# Altium schematic symbol library 屏幕一体板v1.SCHLIB: 32 symbols
Pins are listed as number, name and electrical type; pins without a type are passive.

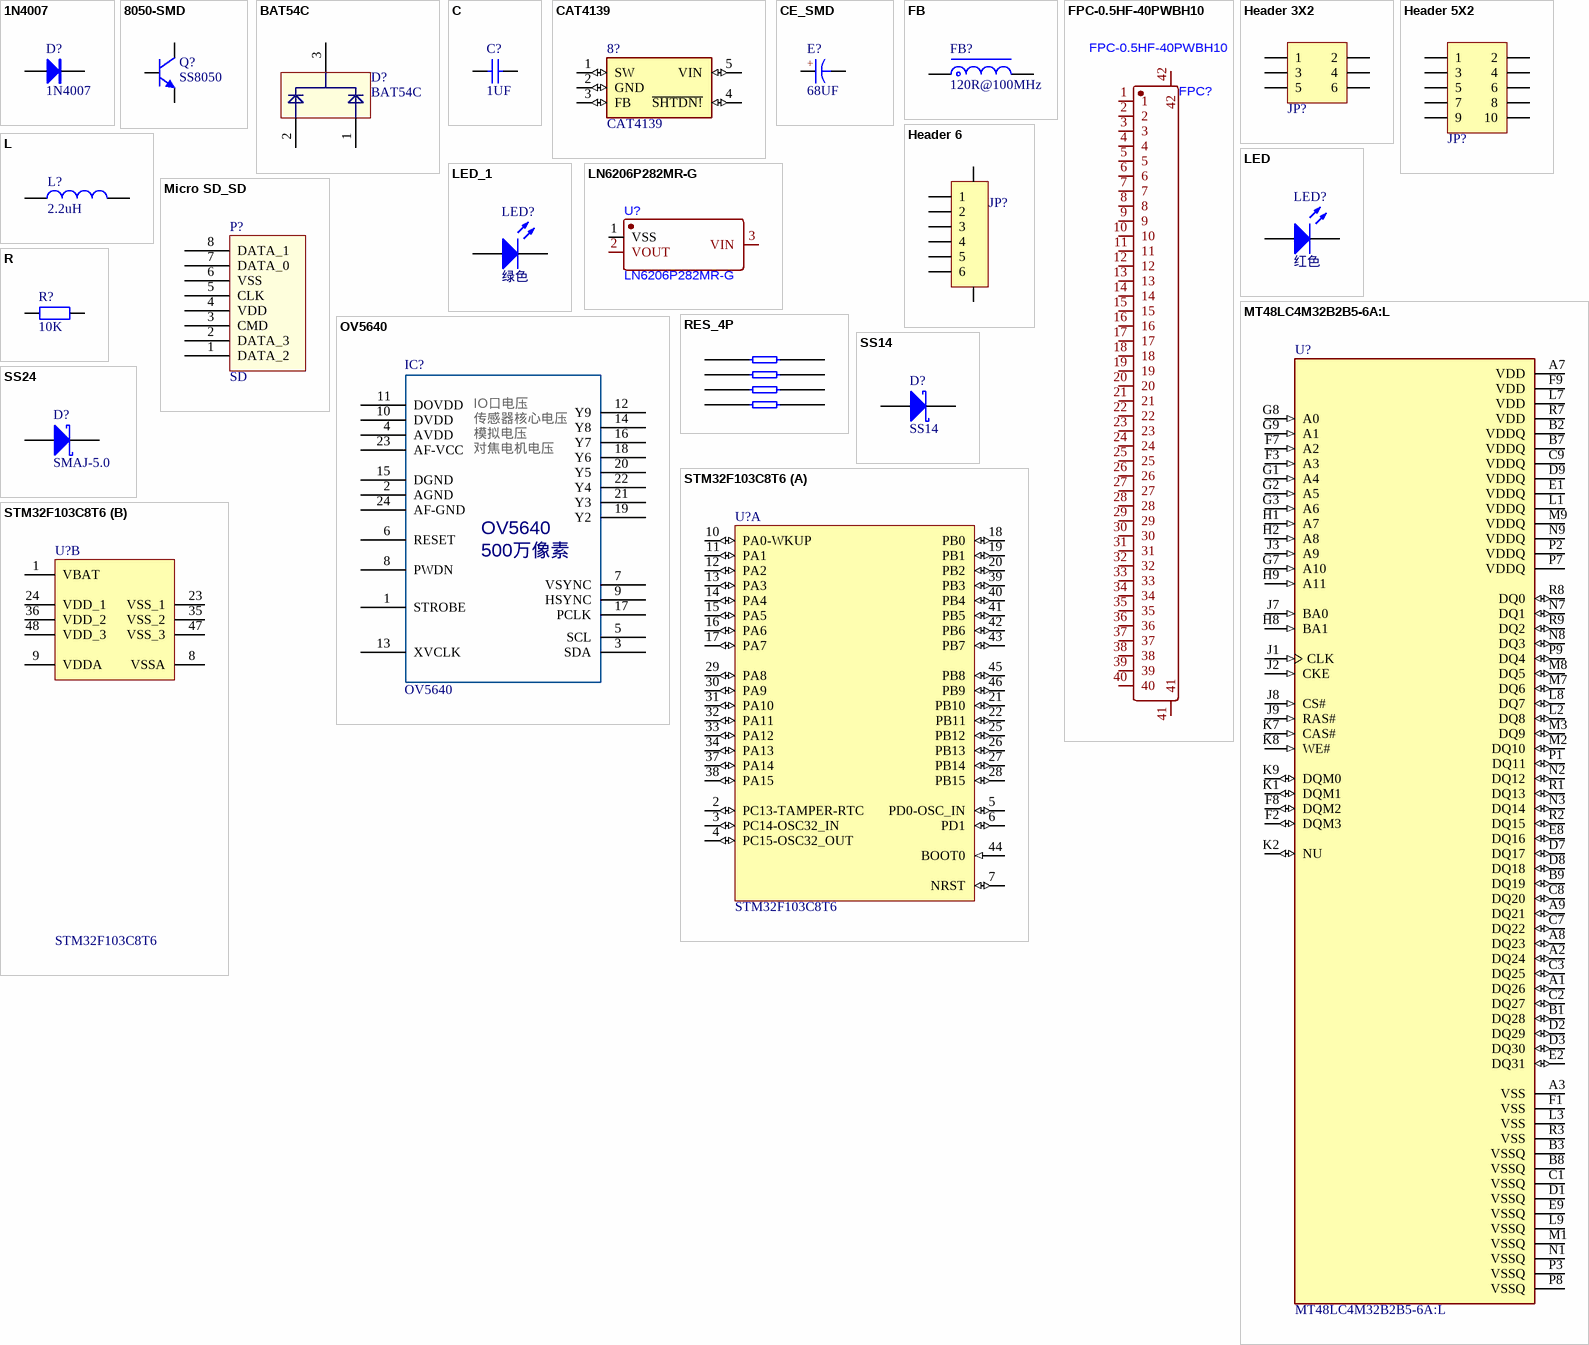
[diagram p0: symbols 1N4007 to STM32F103C8T6]

## 1N4007
designator D?
整流二极管
footprint SMA (4.5x2.6*2.2mm（长宽高，不包括引脚）)
pins: 1 A, 2 K

## 8050-SMD
designator Q?, comment SS8050
高频放大-NPN型
footprint SOT23-3N (SOT23, 3-Leads, Body 2.9x1.3mm, Pitch 0.95mm, Lead Span 2.4mm, IPC Medium Density)
pins: 1 B, 2 E, 3 C

## BAT54C
designator D?
两路肖特基二极管
footprint SOT23-3N (SOT23, 3-Leads, Body 2.9x1.3mm, Pitch 0.95mm, Lead Span 2.4mm, IPC Medium Density)
pins: 1, 2, 3

## C
designator C?, comment 1UF
贴片电容/MLCC电容
footprint C0603_L (贴片MLCC电容)
footprint C0201_M
pins: 1, 2

## CAT4139
designator 8?
LED Driver IC 1 Output DC DC Regulator Step-Up (Boost) Analog, PWM Dimming 750mA (Switch) TSOT-23-5
footprint SOT-23(OT)5_LEAD
pins: 1 SW (io), 2 GND (io), 3 FB (io), 4 ~{SHTDN!} (io), 5 VIN (io)

## CE_SMD
designator E?, comment 68UF
贴片电解电容
footprint CE A(3*5.4) (贴片电解电容，直径3mm，高5.4mm)
pins: 1, 2
text: +

## FB
designator FB?, comment 120R@100MHz
贴片磁珠
footprint FB0201 (0201贴片磁珠)
footprint FB0805 (0805贴片磁珠)
pins: 1, 2

## FPC-0.5HF-40PWBH10
designator FPC?
footprint FPC-SMD_40P-P0.50_FPC-0.5HF-40PWBH10
pins: 1, 2, 3, 4, 5, 6, 7, 8, 9, 10, 11, 12, 13, 14, 15, 16, 17, 18, 19, 20, 21, 22, 23, 24, 25, 26, 27, 28, 29, 30, 31, 32, 33, 34, 35, 36, 37, 38, 39, 40, 41, 42

## Header 3X2
designator JP?, comment Header3X2  (value not drawn)
3*2P接插件
footprint HDR2.54-M-LS-2x3P (脚距：2.54mm，贴片双排母)
pins: 1, 2, 3, 4, 5, 6

## Header 5X2
designator JP?  (value not drawn)
5*2P接插件
footprint HDR2.54-M-LS-2x5P (脚距：2.54mm，贴片双排母)
pins: 1, 2, 3, 4, 5, 6, 7, 8, 9, 10

## Header 6
designator JP?, comment CON-6P  (value not drawn)
6P连接器
footprint FPC0.5-WT-6P (长：7.2mm，宽：5.2mm，高：2mm)
pins: 0, 0, 1, 2, 3, 4, 5, 6

## L
designator L?, comment 2.2uH
贴片小功率电感
footprint L0805 (0805贴片叠层电感)
pins: 1, 2

## LED
designator LED?, comment 红色
贴片LED
footprint LED0603_R (红色0603LED)
footprint LED0805_G (绿色0805LED)
pins: 1 A, 2 K

## LED_1
designator LED?, comment 绿色
贴片LED
footprint LED0603_R (红色0603LED)
footprint LED0805_G (绿色0805LED)
pins: 1 A, 2 K

## LN6206P282MR-G
designator U?
footprint SOT-23-3_L2.9-W1.3-P1.90-LS2.4-BR
pins: 1 VSS, 2 VOUT, 3 VIN

## Micro SD_SD
designator P?, comment SD
自弹式TF卡座
footprint MICRO SD
pins: 1 DATA_2, 2 DATA_3, 3 CMD, 4 VDD, 5 CLK, 6 VSS, 7 DATA_0, 8 DATA_1

## MT48LC4M32B2B5-6A:L
designator U?
SDRAM Memory IC 128Mb _4M x 32_ Parallel 167MHz 5.4ns 90-VFBGA _8x13_
footprint BGA90C80P9X15_800X1300X100N
pins: A1 DQ26 (io), A2 DQ24 (io), A3 VSS (power), A7 VDD (power), A8 DQ23 (io), A9 DQ21 (io), B1 DQ28 (io), B2 VDDQ (power), B3 VSSQ (power), B7 VDDQ (power), B8 VSSQ (power), B9 DQ19 (io), C1 VSSQ (power), C2 DQ27 (io), C3 DQ25 (io), C7 DQ22 (io), C8 DQ20 (io), C9 VDDQ (power), D1 VSSQ (power), D2 DQ29 (io), D3 DQ30 (io), D7 DQ17 (io), D8 DQ18 (io), D9 VDDQ (power), E1 VDDQ (power), E2 DQ31 (io), E8 DQ16 (io), E9 VSSQ (power), F1 VSS (power), F2 DQM3 (io), F3 A3 (in), F7 A2 (in), F8 DQM2 (io), F9 VDD (power), G1 A4 (in), G2 A5 (in), G3 A6 (in), G7 A10 (in), G8 A0 (in), G9 A1 (in), H1 A7 (in), H2 A8 (in), H8 BA1 (in), H9 A11 (in), J1 CLK (in), J2 CKE (in), J3 A9 (in), J7 BA0 (in), J8 CS# (in), J9 RAS# (in), K1 DQM1 (io), K2 NU (io), K7 CAS# (in), K8 WE# (in), K9 DQM0 (io), L1 VDDQ (power), L2 DQ8 (io), L3 VSS (power), L7 VDD (power), L8 DQ7 (io), L9 VSSQ (power), M1 VSSQ (power), M2 DQ10 (io), M3 DQ9 (io), M7 DQ6 (io), M8 DQ5 (io), M9 VDDQ (power), N1 VSSQ (power), N2 DQ12 (io), N3 DQ14 (io), N7 DQ1 (io), N8 DQ3 (io), N9 VDDQ (power), P1 DQ11 (io), P2 VDDQ (power), P3 VSSQ (power), P7 VDDQ (power), P8 VSSQ (power), P9 DQ4 (io), R1 DQ13 (io), R2 DQ15 (io), R3 VSS (power), R7 VDD (power), R8 DQ0 (io), R9 DQ2 (io)

## OV5640
designator IC?
footprint OV2640
pins: 1 STROBE, 2 AGND, 3 SDA, 4 AVDD, 5 SCL, 6 RESET, 7 VSYNC, 8 PWDN, 9 HSYNC, 10 DVDD, 11 DOVDD, 12 Y9, 13 XVCLK, 14 Y8, 15 DGND, 16 Y7, 17 PCLK, 18 Y6, 19 Y2, 20 Y5, 21 Y3, 22 Y4, 23 AF-VCC, 24 AF-GND
text: IO口电压; 传感器核心电压; 模拟电压; 对焦电机电压; 500万像素

## R
designator R?, comment 10K
贴片电阻
footprint R0603_L (1/10W贴片电阻)
footprint R0805_L (1/8W贴片电阻)
pins: 1, 2

## RES_4P
designator RP?, comment 120R排阻  (value not drawn)
footprint 0603_4P
pins: 1, 2, 3, 4, 5, 6, 7, 8

## SS14
designator D?
肖特基二极管
footprint SMA (4.5x2.6*2.2mm（长宽高，不包括引脚）)
pins: 1 A, 2 K

## SS24
designator D?, comment SMAJ-5.0
肖特基二极管
footprint SMB (4.7*3.9*2.2mm(长宽高，不包括引脚）)
pins: 1 A, 2 K

## STM32F103C8T6
designator U?
STM32 ARM-based 32-bit MCU Performance Line with 64 kB Flash, 20 kB Internal RAM, -40 to +85癈 Temperature, 48-Pin LQFP, Tray
footprint LQFP48_N (Thin QFP, 48-Leads, Body 7x7mm, Pitch 0.5mm, IPC Medium Density)
part A pins: 2 PC13-TAMPER-RTC (io), 3 PC14-OSC32_IN (io), 4 PC15-OSC32_OUT (io), 5 PD0-OSC_IN (io), 6 PD1 (io), 7 NRST (io), 10 PA0-WKUP (io), 11 PA1 (io), 12 PA2 (io), 13 PA3 (io), 14 PA4 (io), 15 PA5 (io), 16 PA6 (io), 17 PA7 (io), 18 PB0 (io), 19 PB1 (io), 20 PB2 (io), 21 PB10 (io), 22 PB11 (io), 25 PB12 (io), 26 PB13 (io), 27 PB14 (io), 28 PB15 (io), 29 PA8 (io), 30 PA9 (io), 31 PA10 (io), 32 PA11 (io), 33 PA12 (io), 34 PA13 (io), 37 PA14 (io), 38 PA15 (io), 39 PB3 (io), 40 PB4 (io), 41 PB5 (io), 42 PB6 (io), 43 PB7 (io), 44 BOOT0 (in), 45 PB8 (io), 46 PB9 (io)
part B pins: 1 VBAT (power), 8 VSSA (power), 9 VDDA (power), 23 VSS_1 (power), 24 VDD_1 (power), 35 VSS_2 (power), 36 VDD_2 (power), 47 VSS_3 (power), 48 VDD_3 (power)

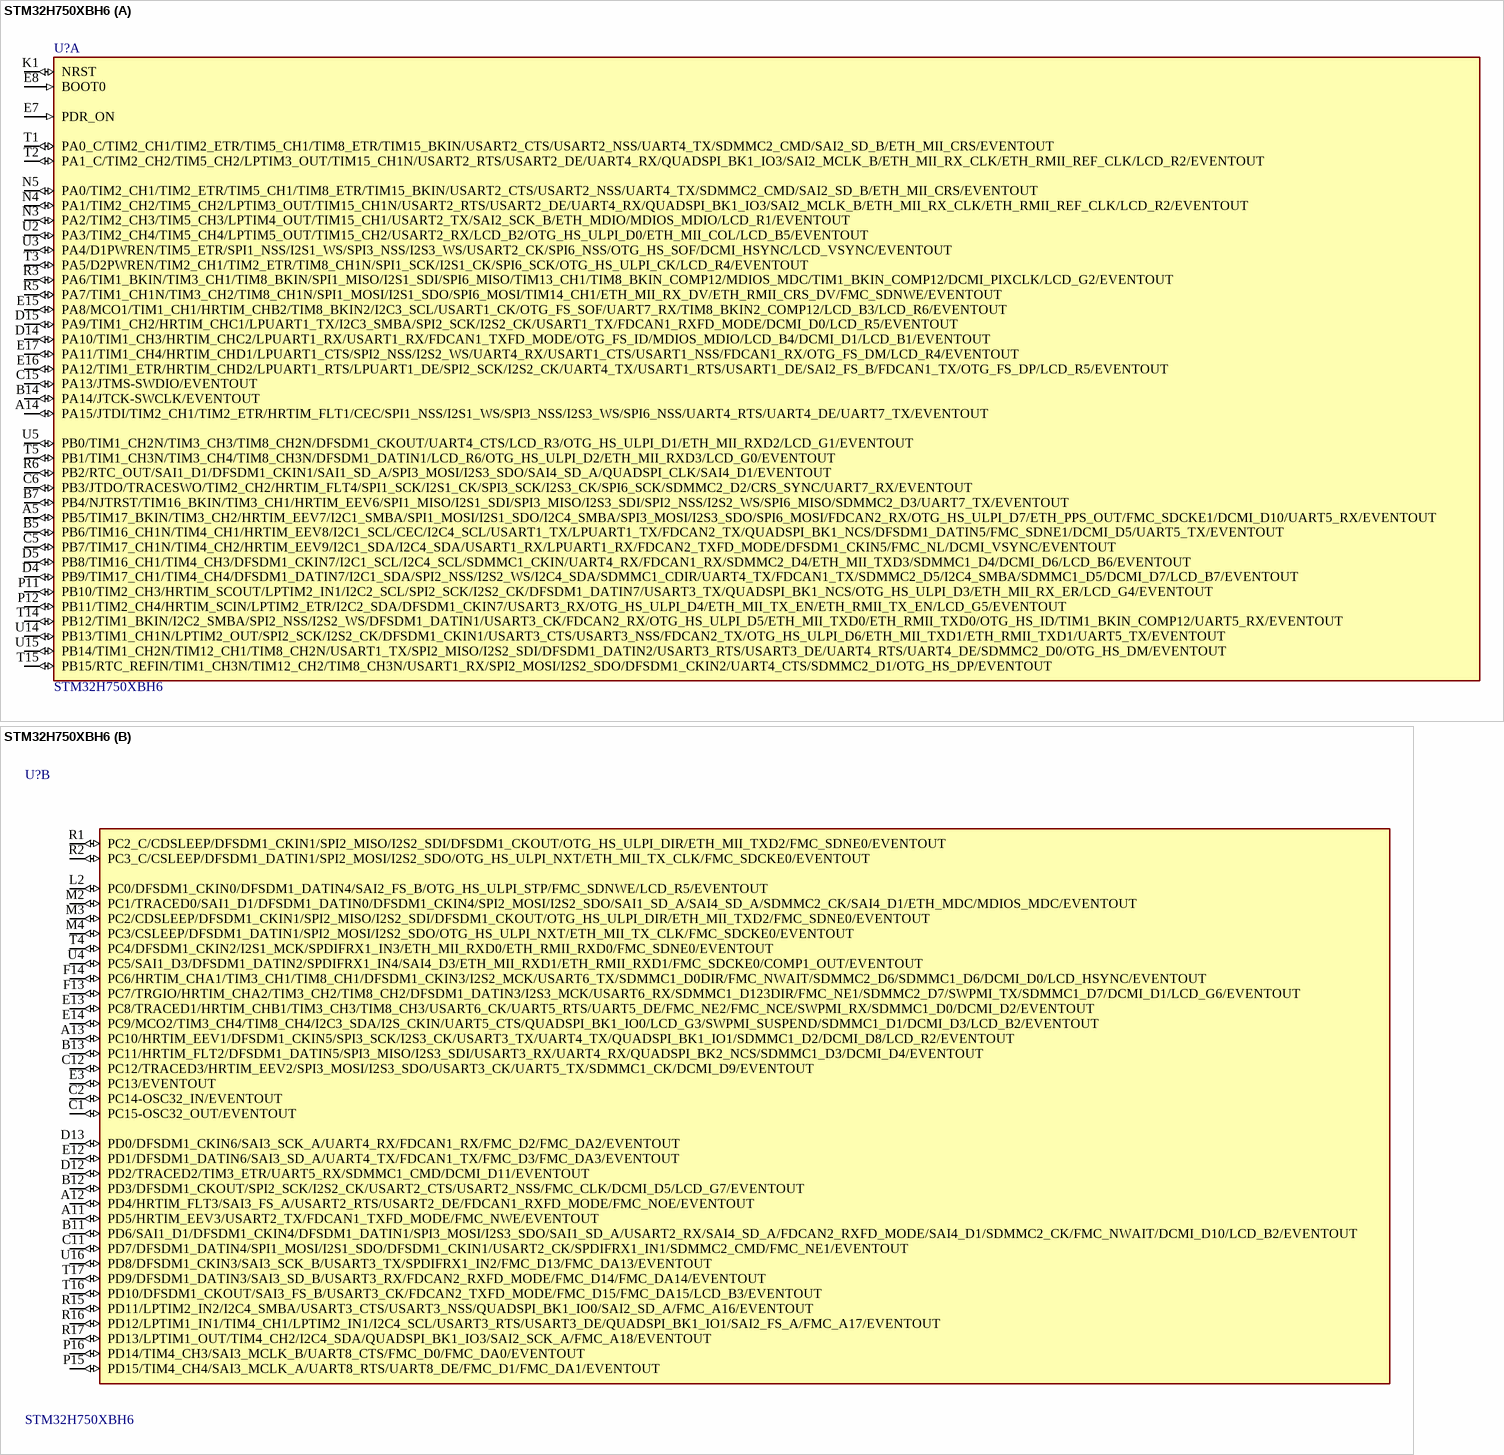
[diagram p1: symbol STM32H750XBH6]

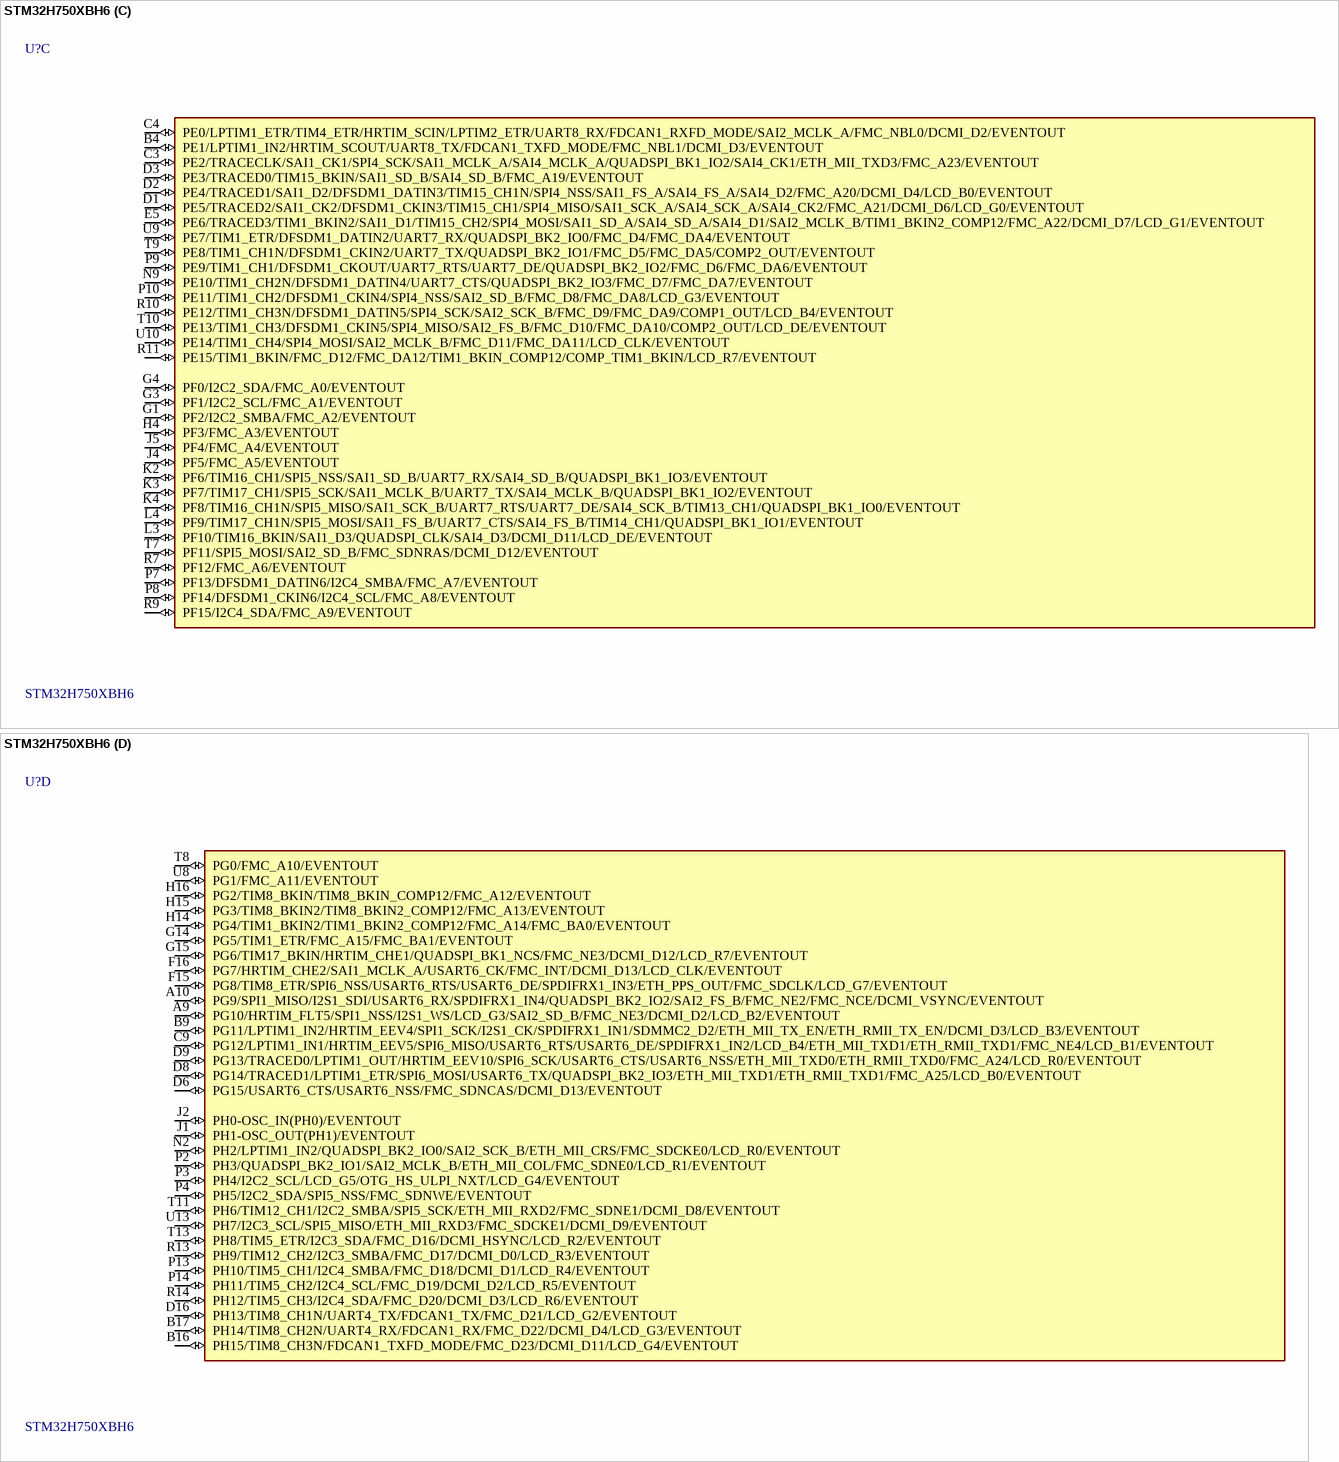
[diagram p2: symbol STM32H750XBH6]

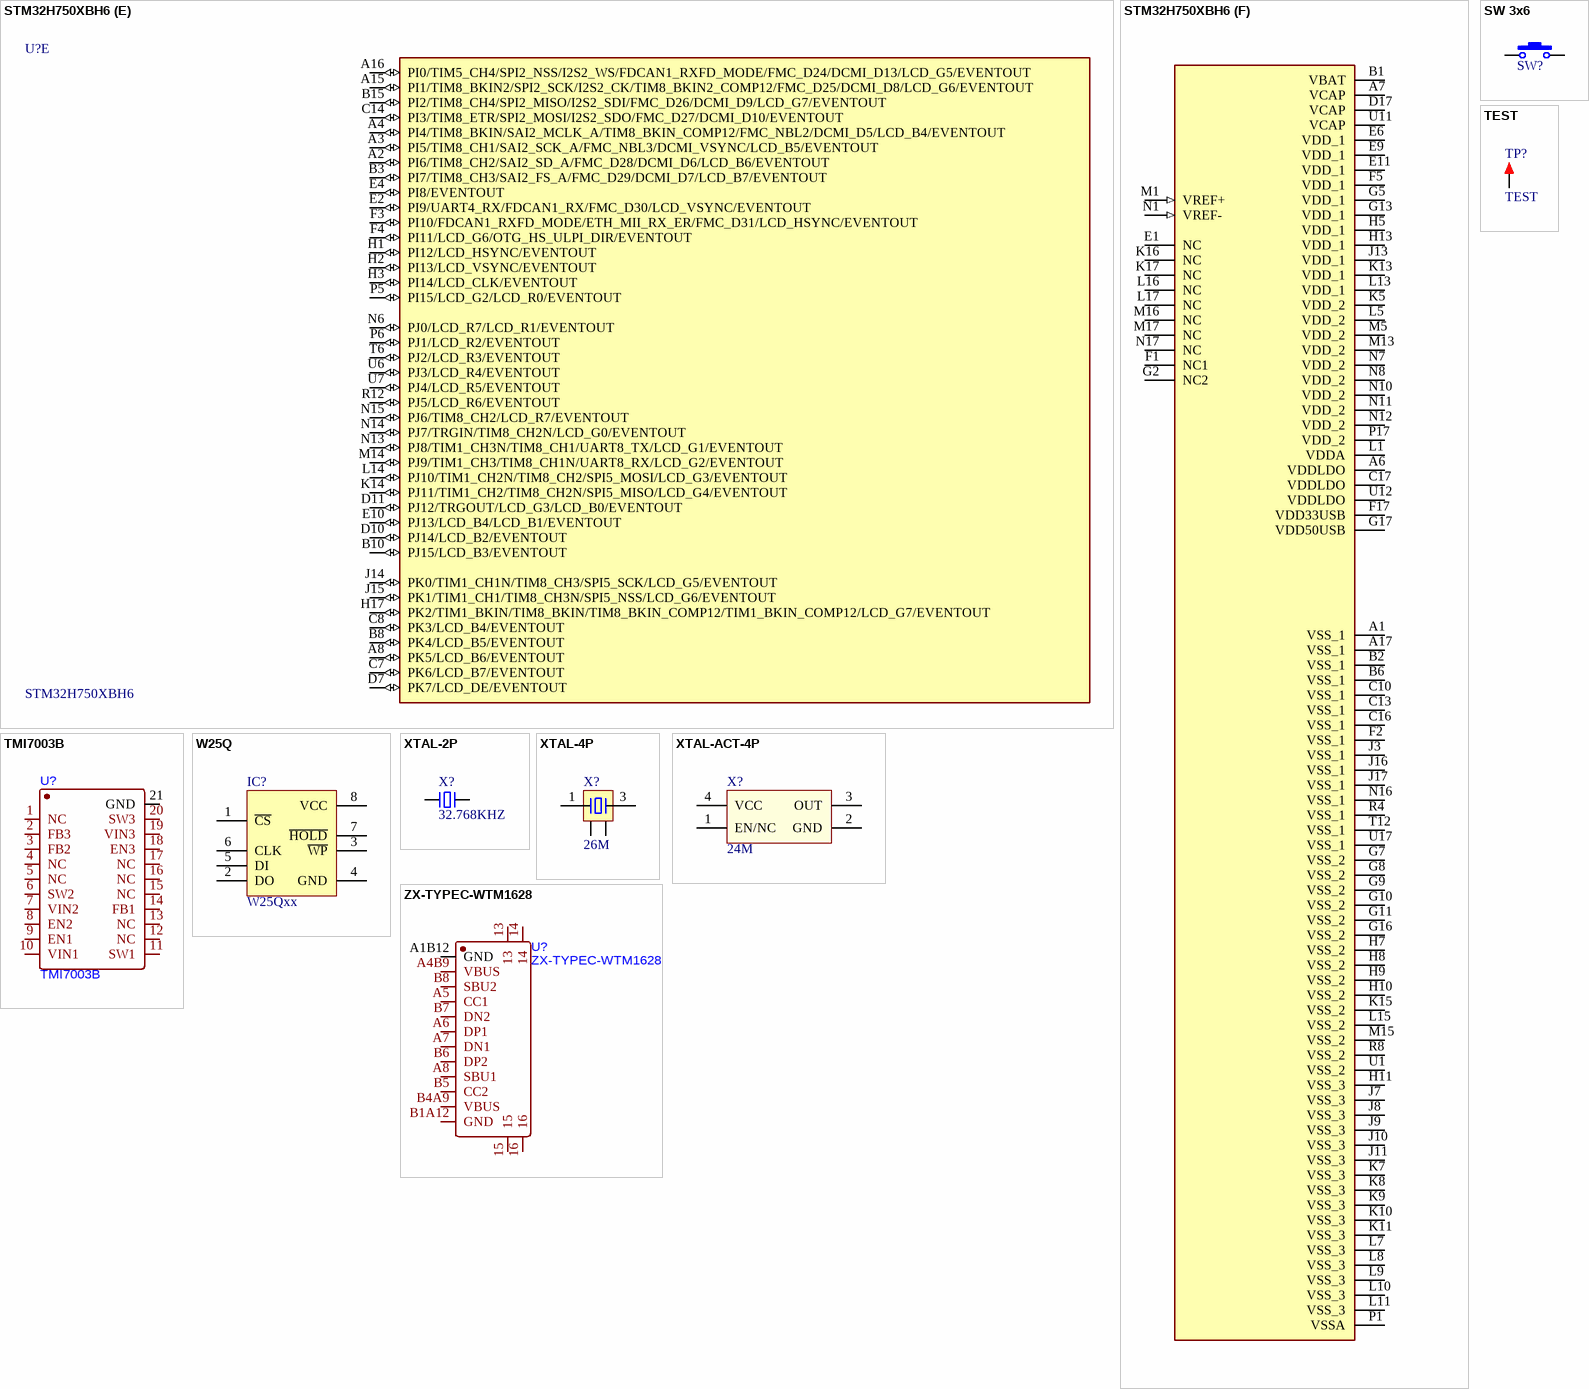
[diagram p3: symbols STM32H750XBH6 to ZX-TYPEC-WTM1628]

## STM32H750XBH6
designator U?
ARMÂ® CortexÂ®-M7 STM32H7 Microcontroller IC 32-Bit 480MHz 128KB (128K x 8) FLASH 240+25-TFBGA (14x14)
footprint IC_STM32H750XBH6
part A pins: A5 PB5/TIM17_BKIN/TIM3_CH2/HRTIM_EEV7/I2C1_SMBA/SPI1_MOSI/I2S1_SDO/I2C4_SMBA/SPI3_MOSI/I2S3_SDO/SPI6_MOSI/FDCAN2_RX/OTG_HS_ULPI_D7/ETH_PPS_OUT/FMC_SDCKE1/DCMI_D10/UART5_RX/EVENTOUT (io), A14 PA15/JTDI/TIM2_CH1/TIM2_ETR/HRTIM_FLT1/CEC/SPI1_NSS/I2S1_WS/SPI3_NSS/I2S3_WS/SPI6_NSS/UART4_RTS/UART4_DE/UART7_TX/EVENTOUT (io), B5 PB6/TIM16_CH1N/TIM4_CH1/HRTIM_EEV8/I2C1_SCL/CEC/I2C4_SCL/USART1_TX/LPUART1_TX/FDCAN2_TX/QUADSPI_BK1_NCS/DFSDM1_DATIN5/FMC_SDNE1/DCMI_D5/UART5_TX/EVENTOUT (io), B7 PB4/NJTRST/TIM16_BKIN/TIM3_CH1/HRTIM_EEV6/SPI1_MISO/I2S1_SDI/SPI3_MISO/I2S3_SDI/SPI2_NSS/I2S2_WS/SPI6_MISO/SDMMC2_D3/UART7_TX/EVENTOUT (io), B14 PA14/JTCK-SWCLK/EVENTOUT (io), C5 PB7/TIM17_CH1N/TIM4_CH2/HRTIM_EEV9/I2C1_SDA/I2C4_SDA/USART1_RX/LPUART1_RX/FDCAN2_TXFD_MODE/DFSDM1_CKIN5/FMC_NL/DCMI_VSYNC/EVENTOUT (io), C6 PB3/JTDO/TRACESWO/TIM2_CH2/HRTIM_FLT4/SPI1_SCK/I2S1_CK/SPI3_SCK/I2S3_CK/SPI6_SCK/SDMMC2_D2/CRS_SYNC/UART7_RX/EVENTOUT (io), C15 PA13/JTMS-SWDIO/EVENTOUT (io), D4 PB9/TIM17_CH1/TIM4_CH4/DFSDM1_DATIN7/I2C1_SDA/SPI2_NSS/I2S2_WS/I2C4_SDA/SDMMC1_CDIR/UART4_TX/FDCAN1_TX/SDMMC2_D5/I2C4_SMBA/SDMMC1_D5/DCMI_D7/LCD_B7/EVENTOUT (io), D5 PB8/TIM16_CH1/TIM4_CH3/DFSDM1_CKIN7/I2C1_SCL/I2C4_SCL/SDMMC1_CKIN/UART4_RX/FDCAN1_RX/SDMMC2_D4/ETH_MII_TXD3/SDMMC1_D4/DCMI_D6/LCD_B6/EVENTOUT (io), D14 PA10/TIM1_CH3/HRTIM_CHC2/LPUART1_RX/USART1_RX/FDCAN1_TXFD_MODE/OTG_FS_ID/MDIOS_MDIO/LCD_B4/DCMI_D1/LCD_B1/EVENTOUT (io), D15 PA9/TIM1_CH2/HRTIM_CHC1/LPUART1_TX/I2C3_SMBA/SPI2_SCK/I2S2_CK/USART1_TX/FDCAN1_RXFD_MODE/DCMI_D0/LCD_R5/EVENTOUT (io), E7 PDR_ON (in), E8 BOOT0 (in), E15 PA8/MCO1/TIM1_CH1/HRTIM_CHB2/TIM8_BKIN2/I2C3_SCL/USART1_CK/OTG_FS_SOF/UART7_RX/TIM8_BKIN2_COMP12/LCD_B3/LCD_R6/EVENTOUT (io), E16 PA12/TIM1_ETR/HRTIM_CHD2/LPUART1_RTS/LPUART1_DE/SPI2_SCK/I2S2_CK/UART4_TX/USART1_RTS/USART1_DE/SAI2_FS_B/FDCAN1_TX/OTG_FS_DP/LCD_R5/EVENTOUT (io), E17 PA11/TIM1_CH4/HRTIM_CHD1/LPUART1_CTS/SPI2_NSS/I2S2_WS/UART4_RX/USART1_CTS/USART1_NSS/FDCAN1_RX/OTG_FS_DM/LCD_R4/EVENTOUT (io), K1 NRST (io), N3 PA2/TIM2_CH3/TIM5_CH3/LPTIM4_OUT/TIM15_CH1/USART2_TX/SAI2_SCK_B/ETH_MDIO/MDIOS_MDIO/LCD_R1/EVENTOUT (io), N4 PA1/TIM2_CH2/TIM5_CH2/LPTIM3_OUT/TIM15_CH1N/USART2_RTS/USART2_DE/UART4_RX/QUADSPI_BK1_IO3/SAI2_MCLK_B/ETH_MII_RX_CLK/ETH_RMII_REF_CLK/LCD_R2/EVENTOUT (io), N5 PA0/TIM2_CH1/TIM2_ETR/TIM5_CH1/TIM8_ETR/TIM15_BKIN/USART2_CTS/USART2_NSS/UART4_TX/SDMMC2_CMD/SAI2_SD_B/ETH_MII_CRS/EVENTOUT (io), P11 PB10/TIM2_CH3/HRTIM_SCOUT/LPTIM2_IN1/I2C2_SCL/SPI2_SCK/I2S2_CK/DFSDM1_DATIN7/USART3_TX/QUADSPI_BK1_NCS/OTG_HS_ULPI_D3/ETH_MII_RX_ER/LCD_G4/EVENTOUT (io), P12 PB11/TIM2_CH4/HRTIM_SCIN/LPTIM2_ETR/I2C2_SDA/DFSDM1_CKIN7/USART3_RX/OTG_HS_ULPI_D4/ETH_MII_TX_EN/ETH_RMII_TX_EN/LCD_G5/EVENTOUT (io), R3 PA6/TIM1_BKIN/TIM3_CH1/TIM8_BKIN/SPI1_MISO/I2S1_SDI/SPI6_MISO/TIM13_CH1/TIM8_BKIN_COMP12/MDIOS_MDC/TIM1_BKIN_COMP12/DCMI_PIXCLK/LCD_G2/EVENTOUT (io), R5 PA7/TIM1_CH1N/TIM3_CH2/TIM8_CH1N/SPI1_MOSI/I2S1_SDO/SPI6_MOSI/TIM14_CH1/ETH_MII_RX_DV/ETH_RMII_CRS_DV/FMC_SDNWE/EVENTOUT (io), R6 PB2/RTC_OUT/SAI1_D1/DFSDM1_CKIN1/SAI1_SD_A/SPI3_MOSI/I2S3_SDO/SAI4_SD_A/QUADSPI_CLK/SAI4_D1/EVENTOUT (io), T1 PA0_C/TIM2_CH1/TIM2_ETR/TIM5_CH1/TIM8_ETR/TIM15_BKIN/USART2_CTS/USART2_NSS/UART4_TX/SDMMC2_CMD/SAI2_SD_B/ETH_MII_CRS/EVENTOUT (io), T2 PA1_C/TIM2_CH2/TIM5_CH2/LPTIM3_OUT/TIM15_CH1N/USART2_RTS/USART2_DE/UART4_RX/QUADSPI_BK1_IO3/SAI2_MCLK_B/ETH_MII_RX_CLK/ETH_RMII_REF_CLK/LCD_R2/EVENTOUT (io), T3 PA5/D2PWREN/TIM2_CH1/TIM2_ETR/TIM8_CH1N/SPI1_SCK/I2S1_CK/SPI6_SCK/OTG_HS_ULPI_CK/LCD_R4/EVENTOUT (io), T5 PB1/TIM1_CH3N/TIM3_CH4/TIM8_CH3N/DFSDM1_DATIN1/LCD_R6/OTG_HS_ULPI_D2/ETH_MII_RXD3/LCD_G0/EVENTOUT (io), T14 PB12/TIM1_BKIN/I2C2_SMBA/SPI2_NSS/I2S2_WS/DFSDM1_DATIN1/USART3_CK/FDCAN2_RX/OTG_HS_ULPI_D5/ETH_MII_TXD0/ETH_RMII_TXD0/OTG_HS_ID/TIM1_BKIN_COMP12/UART5_RX/EVENTOUT (io), T15 PB15/RTC_REFIN/TIM1_CH3N/TIM12_CH2/TIM8_CH3N/USART1_RX/SPI2_MOSI/I2S2_SDO/DFSDM1_CKIN2/UART4_CTS/SDMMC2_D1/OTG_HS_DP/EVENTOUT (io), U2 PA3/TIM2_CH4/TIM5_CH4/LPTIM5_OUT/TIM15_CH2/USART2_RX/LCD_B2/OTG_HS_ULPI_D0/ETH_MII_COL/LCD_B5/EVENTOUT (io), U3 PA4/D1PWREN/TIM5_ETR/SPI1_NSS/I2S1_WS/SPI3_NSS/I2S3_WS/USART2_CK/SPI6_NSS/OTG_HS_SOF/DCMI_HSYNC/LCD_VSYNC/EVENTOUT (io), U5 PB0/TIM1_CH2N/TIM3_CH3/TIM8_CH2N/DFSDM1_CKOUT/UART4_CTS/LCD_R3/OTG_HS_ULPI_D1/ETH_MII_RXD2/LCD_G1/EVENTOUT (io), U14 PB13/TIM1_CH1N/LPTIM2_OUT/SPI2_SCK/I2S2_CK/DFSDM1_CKIN1/USART3_CTS/USART3_NSS/FDCAN2_TX/OTG_HS_ULPI_D6/ETH_MII_TXD1/ETH_RMII_TXD1/UART5_TX/EVENTOUT (io), U15 PB14/TIM1_CH2N/TIM12_CH1/TIM8_CH2N/USART1_TX/SPI2_MISO/I2S2_SDI/DFSDM1_DATIN2/USART3_RTS/USART3_DE/UART4_RTS/UART4_DE/SDMMC2_D0/OTG_HS_DM/EVENTOUT (io)
part B pins: A11 PD5/HRTIM_EEV3/USART2_TX/FDCAN1_TXFD_MODE/FMC_NWE/EVENTOUT (io), A12 PD4/HRTIM_FLT3/SAI3_FS_A/USART2_RTS/USART2_DE/FDCAN1_RXFD_MODE/FMC_NOE/EVENTOUT (io), A13 PC10/HRTIM_EEV1/DFSDM1_CKIN5/SPI3_SCK/I2S3_CK/USART3_TX/UART4_TX/QUADSPI_BK1_IO1/SDMMC1_D2/DCMI_D8/LCD_R2/EVENTOUT (io), B11 PD6/SAI1_D1/DFSDM1_CKIN4/DFSDM1_DATIN1/SPI3_MOSI/I2S3_SDO/SAI1_SD_A/USART2_RX/SAI4_SD_A/FDCAN2_RXFD_MODE/SAI4_D1/SDMMC2_CK/FMC_NWAIT/DCMI_D10/LCD_B2/EVENTOUT (io), B12 PD3/DFSDM1_CKOUT/SPI2_SCK/I2S2_CK/USART2_CTS/USART2_NSS/FMC_CLK/DCMI_D5/LCD_G7/EVENTOUT (io), B13 PC11/HRTIM_FLT2/DFSDM1_DATIN5/SPI3_MISO/I2S3_SDI/USART3_RX/UART4_RX/QUADSPI_BK2_NCS/SDMMC1_D3/DCMI_D4/EVENTOUT (io), C1 PC15-OSC32_OUT/EVENTOUT (io), C2 PC14-OSC32_IN/EVENTOUT (io), C11 PD7/DFSDM1_DATIN4/SPI1_MOSI/I2S1_SDO/DFSDM1_CKIN1/USART2_CK/SPDIFRX1_IN1/SDMMC2_CMD/FMC_NE1/EVENTOUT (io), C12 PC12/TRACED3/HRTIM_EEV2/SPI3_MOSI/I2S3_SDO/USART3_CK/UART5_TX/SDMMC1_CK/DCMI_D9/EVENTOUT (io), D12 PD2/TRACED2/TIM3_ETR/UART5_RX/SDMMC1_CMD/DCMI_D11/EVENTOUT (io), D13 PD0/DFSDM1_CKIN6/SAI3_SCK_A/UART4_RX/FDCAN1_RX/FMC_D2/FMC_DA2/EVENTOUT (io), E3 PC13/EVENTOUT (io), E12 PD1/DFSDM1_DATIN6/SAI3_SD_A/UART4_TX/FDCAN1_TX/FMC_D3/FMC_DA3/EVENTOUT (io), E13 PC8/TRACED1/HRTIM_CHB1/TIM3_CH3/TIM8_CH3/USART6_CK/UART5_RTS/UART5_DE/FMC_NE2/FMC_NCE/SWPMI_RX/SDMMC1_D0/DCMI_D2/EVENTOUT (io), E14 PC9/MCO2/TIM3_CH4/TIM8_CH4/I2C3_SDA/I2S_CKIN/UART5_CTS/QUADSPI_BK1_IO0/LCD_G3/SWPMI_SUSPEND/SDMMC1_D1/DCMI_D3/LCD_B2/EVENTOUT (io), F13 PC7/TRGIO/HRTIM_CHA2/TIM3_CH2/TIM8_CH2/DFSDM1_DATIN3/I2S3_MCK/USART6_RX/SDMMC1_D123DIR/FMC_NE1/SDMMC2_D7/SWPMI_TX/SDMMC1_D7/DCMI_D1/LCD_G6/EVENTOUT (io), F14 PC6/HRTIM_CHA1/TIM3_CH1/TIM8_CH1/DFSDM1_CKIN3/I2S2_MCK/USART6_TX/SDMMC1_D0DIR/FMC_NWAIT/SDMMC2_D6/SDMMC1_D6/DCMI_D0/LCD_HSYNC/EVENTOUT (io), L2 PC0/DFSDM1_CKIN0/DFSDM1_DATIN4/SAI2_FS_B/OTG_HS_ULPI_STP/FMC_SDNWE/LCD_R5/EVENTOUT (io), M2 PC1/TRACED0/SAI1_D1/DFSDM1_DATIN0/DFSDM1_CKIN4/SPI2_MOSI/I2S2_SDO/SAI1_SD_A/SAI4_SD_A/SDMMC2_CK/SAI4_D1/ETH_MDC/MDIOS_MDC/EVENTOUT (io), M3 PC2/CDSLEEP/DFSDM1_CKIN1/SPI2_MISO/I2S2_SDI/DFSDM1_CKOUT/OTG_HS_ULPI_DIR/ETH_MII_TXD2/FMC_SDNE0/EVENTOUT (io), M4 PC3/CSLEEP/DFSDM1_DATIN1/SPI2_MOSI/I2S2_SDO/OTG_HS_ULPI_NXT/ETH_MII_TX_CLK/FMC_SDCKE0/EVENTOUT (io), P15 PD15/TIM4_CH4/SAI3_MCLK_A/UART8_RTS/UART8_DE/FMC_D1/FMC_DA1/EVENTOUT (io), P16 PD14/TIM4_CH3/SAI3_MCLK_B/UART8_CTS/FMC_D0/FMC_DA0/EVENTOUT (io), R1 PC2_C/CDSLEEP/DFSDM1_CKIN1/SPI2_MISO/I2S2_SDI/DFSDM1_CKOUT/OTG_HS_ULPI_DIR/ETH_MII_TXD2/FMC_SDNE0/EVENTOUT (io), R2 PC3_C/CSLEEP/DFSDM1_DATIN1/SPI2_MOSI/I2S2_SDO/OTG_HS_ULPI_NXT/ETH_MII_TX_CLK/FMC_SDCKE0/EVENTOUT (io), R15 PD11/LPTIM2_IN2/I2C4_SMBA/USART3_CTS/USART3_NSS/QUADSPI_BK1_IO0/SAI2_SD_A/FMC_A16/EVENTOUT (io), R16 PD12/LPTIM1_IN1/TIM4_CH1/LPTIM2_IN1/I2C4_SCL/USART3_RTS/USART3_DE/QUADSPI_BK1_IO1/SAI2_FS_A/FMC_A17/EVENTOUT (io), R17 PD13/LPTIM1_OUT/TIM4_CH2/I2C4_SDA/QUADSPI_BK1_IO3/SAI2_SCK_A/FMC_A18/EVENTOUT (io), T4 PC4/DFSDM1_CKIN2/I2S1_MCK/SPDIFRX1_IN3/ETH_MII_RXD0/ETH_RMII_RXD0/FMC_SDNE0/EVENTOUT (io), T16 PD10/DFSDM1_CKOUT/SAI3_FS_B/USART3_CK/FDCAN2_TXFD_MODE/FMC_D15/FMC_DA15/LCD_B3/EVENTOUT (io), T17 PD9/DFSDM1_DATIN3/SAI3_SD_B/USART3_RX/FDCAN2_RXFD_MODE/FMC_D14/FMC_DA14/EVENTOUT (io), U4 PC5/SAI1_D3/DFSDM1_DATIN2/SPDIFRX1_IN4/SAI4_D3/ETH_MII_RXD1/ETH_RMII_RXD1/FMC_SDCKE0/COMP1_OUT/EVENTOUT (io), U16 PD8/DFSDM1_CKIN3/SAI3_SCK_B/USART3_TX/SPDIFRX1_IN2/FMC_D13/FMC_DA13/EVENTOUT (io)
part C pins: B4 PE1/LPTIM1_IN2/HRTIM_SCOUT/UART8_TX/FDCAN1_TXFD_MODE/FMC_NBL1/DCMI_D3/EVENTOUT (io), C3 PE2/TRACECLK/SAI1_CK1/SPI4_SCK/SAI1_MCLK_A/SAI4_MCLK_A/QUADSPI_BK1_IO2/SAI4_CK1/ETH_MII_TXD3/FMC_A23/EVENTOUT (io), C4 PE0/LPTIM1_ETR/TIM4_ETR/HRTIM_SCIN/LPTIM2_ETR/UART8_RX/FDCAN1_RXFD_MODE/SAI2_MCLK_A/FMC_NBL0/DCMI_D2/EVENTOUT (io), D1 PE5/TRACED2/SAI1_CK2/DFSDM1_CKIN3/TIM15_CH1/SPI4_MISO/SAI1_SCK_A/SAI4_SCK_A/SAI4_CK2/FMC_A21/DCMI_D6/LCD_G0/EVENTOUT (io), D2 PE4/TRACED1/SAI1_D2/DFSDM1_DATIN3/TIM15_CH1N/SPI4_NSS/SAI1_FS_A/SAI4_FS_A/SAI4_D2/FMC_A20/DCMI_D4/LCD_B0/EVENTOUT (io), D3 PE3/TRACED0/TIM15_BKIN/SAI1_SD_B/SAI4_SD_B/FMC_A19/EVENTOUT (io), E5 PE6/TRACED3/TIM1_BKIN2/SAI1_D1/TIM15_CH2/SPI4_MOSI/SAI1_SD_A/SAI4_SD_A/SAI4_D1/SAI2_MCLK_B/TIM1_BKIN2_COMP12/FMC_A22/DCMI_D7/LCD_G1/EVENTOUT (io), G1 PF2/I2C2_SMBA/FMC_A2/EVENTOUT (io), G3 PF1/I2C2_SCL/FMC_A1/EVENTOUT (io), G4 PF0/I2C2_SDA/FMC_A0/EVENTOUT (io), H4 PF3/FMC_A3/EVENTOUT (io), J4 PF5/FMC_A5/EVENTOUT (io), J5 PF4/FMC_A4/EVENTOUT (io), K2 PF6/TIM16_CH1/SPI5_NSS/SAI1_SD_B/UART7_RX/SAI4_SD_B/QUADSPI_BK1_IO3/EVENTOUT (io), K3 PF7/TIM17_CH1/SPI5_SCK/SAI1_MCLK_B/UART7_TX/SAI4_MCLK_B/QUADSPI_BK1_IO2/EVENTOUT (io), K4 PF8/TIM16_CH1N/SPI5_MISO/SAI1_SCK_B/UART7_RTS/UART7_DE/SAI4_SCK_B/TIM13_CH1/QUADSPI_BK1_IO0/EVENTOUT (io), L3 PF10/TIM16_BKIN/SAI1_D3/QUADSPI_CLK/SAI4_D3/DCMI_D11/LCD_DE/EVENTOUT (io), L4 PF9/TIM17_CH1N/SPI5_MOSI/SAI1_FS_B/UART7_CTS/SAI4_FS_B/TIM14_CH1/QUADSPI_BK1_IO1/EVENTOUT (io), N9 PE10/TIM1_CH2N/DFSDM1_DATIN4/UART7_CTS/QUADSPI_BK2_IO3/FMC_D7/FMC_DA7/EVENTOUT (io), P7 PF13/DFSDM1_DATIN6/I2C4_SMBA/FMC_A7/EVENTOUT (io), P8 PF14/DFSDM1_CKIN6/I2C4_SCL/FMC_A8/EVENTOUT (io), P9 PE9/TIM1_CH1/DFSDM1_CKOUT/UART7_RTS/UART7_DE/QUADSPI_BK2_IO2/FMC_D6/FMC_DA6/EVENTOUT (io), P10 PE11/TIM1_CH2/DFSDM1_CKIN4/SPI4_NSS/SAI2_SD_B/FMC_D8/FMC_DA8/LCD_G3/EVENTOUT (io), R7 PF12/FMC_A6/EVENTOUT (io), R9 PF15/I2C4_SDA/FMC_A9/EVENTOUT (io), R10 PE12/TIM1_CH3N/DFSDM1_DATIN5/SPI4_SCK/SAI2_SCK_B/FMC_D9/FMC_DA9/COMP1_OUT/LCD_B4/EVENTOUT (io), R11 PE15/TIM1_BKIN/FMC_D12/FMC_DA12/TIM1_BKIN_COMP12/COMP_TIM1_BKIN/LCD_R7/EVENTOUT (io), T7 PF11/SPI5_MOSI/SAI2_SD_B/FMC_SDNRAS/DCMI_D12/EVENTOUT (io), T9 PE8/TIM1_CH1N/DFSDM1_CKIN2/UART7_TX/QUADSPI_BK2_IO1/FMC_D5/FMC_DA5/COMP2_OUT/EVENTOUT (io), T10 PE13/TIM1_CH3/DFSDM1_CKIN5/SPI4_MISO/SAI2_FS_B/FMC_D10/FMC_DA10/COMP2_OUT/LCD_DE/EVENTOUT (io), U9 PE7/TIM1_ETR/DFSDM1_DATIN2/UART7_RX/QUADSPI_BK2_IO0/FMC_D4/FMC_DA4/EVENTOUT (io), U10 PE14/TIM1_CH4/SPI4_MOSI/SAI2_MCLK_B/FMC_D11/FMC_DA11/LCD_CLK/EVENTOUT (io)
part D pins: A9 PG10/HRTIM_FLT5/SPI1_NSS/I2S1_WS/LCD_G3/SAI2_SD_B/FMC_NE3/DCMI_D2/LCD_B2/EVENTOUT (io), A10 PG9/SPI1_MISO/I2S1_SDI/USART6_RX/SPDIFRX1_IN4/QUADSPI_BK2_IO2/SAI2_FS_B/FMC_NE2/FMC_NCE/DCMI_VSYNC/EVENTOUT (io), B9 PG11/LPTIM1_IN2/HRTIM_EEV4/SPI1_SCK/I2S1_CK/SPDIFRX1_IN1/SDMMC2_D2/ETH_MII_TX_EN/ETH_RMII_TX_EN/DCMI_D3/LCD_B3/EVENTOUT (io), B16 PH15/TIM8_CH3N/FDCAN1_TXFD_MODE/FMC_D23/DCMI_D11/LCD_G4/EVENTOUT (io), B17 PH14/TIM8_CH2N/UART4_RX/FDCAN1_RX/FMC_D22/DCMI_D4/LCD_G3/EVENTOUT (io), C9 PG12/LPTIM1_IN1/HRTIM_EEV5/SPI6_MISO/USART6_RTS/USART6_DE/SPDIFRX1_IN2/LCD_B4/ETH_MII_TXD1/ETH_RMII_TXD1/FMC_NE4/LCD_B1/EVENTOUT (io), D6 PG15/USART6_CTS/USART6_NSS/FMC_SDNCAS/DCMI_D13/EVENTOUT (io), D8 PG14/TRACED1/LPTIM1_ETR/SPI6_MOSI/USART6_TX/QUADSPI_BK2_IO3/ETH_MII_TXD1/ETH_RMII_TXD1/FMC_A25/LCD_B0/EVENTOUT (io), D9 PG13/TRACED0/LPTIM1_OUT/HRTIM_EEV10/SPI6_SCK/USART6_CTS/USART6_NSS/ETH_MII_TXD0/ETH_RMII_TXD0/FMC_A24/LCD_R0/EVENTOUT (io), D16 PH13/TIM8_CH1N/UART4_TX/FDCAN1_TX/FMC_D21/LCD_G2/EVENTOUT (io), F15 PG8/TIM8_ETR/SPI6_NSS/USART6_RTS/USART6_DE/SPDIFRX1_IN3/ETH_PPS_OUT/FMC_SDCLK/LCD_G7/EVENTOUT (io), F16 PG7/HRTIM_CHE2/SAI1_MCLK_A/USART6_CK/FMC_INT/DCMI_D13/LCD_CLK/EVENTOUT (io), G14 PG5/TIM1_ETR/FMC_A15/FMC_BA1/EVENTOUT (io), G15 PG6/TIM17_BKIN/HRTIM_CHE1/QUADSPI_BK1_NCS/FMC_NE3/DCMI_D12/LCD_R7/EVENTOUT (io), H14 PG4/TIM1_BKIN2/TIM1_BKIN2_COMP12/FMC_A14/FMC_BA0/EVENTOUT (io), H15 PG3/TIM8_BKIN2/TIM8_BKIN2_COMP12/FMC_A13/EVENTOUT (io), H16 PG2/TIM8_BKIN/TIM8_BKIN_COMP12/FMC_A12/EVENTOUT (io), J1 PH1-OSC_OUT(PH1)/EVENTOUT (io), J2 PH0-OSC_IN(PH0)/EVENTOUT (io), N2 PH2/LPTIM1_IN2/QUADSPI_BK2_IO0/SAI2_SCK_B/ETH_MII_CRS/FMC_SDCKE0/LCD_R0/EVENTOUT (io), P2 PH3/QUADSPI_BK2_IO1/SAI2_MCLK_B/ETH_MII_COL/FMC_SDNE0/LCD_R1/EVENTOUT (io), P3 PH4/I2C2_SCL/LCD_G5/OTG_HS_ULPI_NXT/LCD_G4/EVENTOUT (io), P4 PH5/I2C2_SDA/SPI5_NSS/FMC_SDNWE/EVENTOUT (io), P13 PH10/TIM5_CH1/I2C4_SMBA/FMC_D18/DCMI_D1/LCD_R4/EVENTOUT (io), P14 PH11/TIM5_CH2/I2C4_SCL/FMC_D19/DCMI_D2/LCD_R5/EVENTOUT (io), R13 PH9/TIM12_CH2/I2C3_SMBA/FMC_D17/DCMI_D0/LCD_R3/EVENTOUT (io), R14 PH12/TIM5_CH3/I2C4_SDA/FMC_D20/DCMI_D3/LCD_R6/EVENTOUT (io), T8 PG0/FMC_A10/EVENTOUT (io), T11 PH6/TIM12_CH1/I2C2_SMBA/SPI5_SCK/ETH_MII_RXD2/FMC_SDNE1/DCMI_D8/EVENTOUT (io), T13 PH8/TIM5_ETR/I2C3_SDA/FMC_D16/DCMI_HSYNC/LCD_R2/EVENTOUT (io), U8 PG1/FMC_A11/EVENTOUT (io), U13 PH7/I2C3_SCL/SPI5_MISO/ETH_MII_RXD3/FMC_SDCKE1/DCMI_D9/EVENTOUT (io)
part E pins: A2 PI6/TIM8_CH2/SAI2_SD_A/FMC_D28/DCMI_D6/LCD_B6/EVENTOUT (io), A3 PI5/TIM8_CH1/SAI2_SCK_A/FMC_NBL3/DCMI_VSYNC/LCD_B5/EVENTOUT (io), A4 PI4/TIM8_BKIN/SAI2_MCLK_A/TIM8_BKIN_COMP12/FMC_NBL2/DCMI_D5/LCD_B4/EVENTOUT (io), A8 PK5/LCD_B6/EVENTOUT (io), A15 PI1/TIM8_BKIN2/SPI2_SCK/I2S2_CK/TIM8_BKIN2_COMP12/FMC_D25/DCMI_D8/LCD_G6/EVENTOUT (io), A16 PI0/TIM5_CH4/SPI2_NSS/I2S2_WS/FDCAN1_RXFD_MODE/FMC_D24/DCMI_D13/LCD_G5/EVENTOUT (io), B3 PI7/TIM8_CH3/SAI2_FS_A/FMC_D29/DCMI_D7/LCD_B7/EVENTOUT (io), B8 PK4/LCD_B5/EVENTOUT (io), B10 PJ15/LCD_B3/EVENTOUT (io), B15 PI2/TIM8_CH4/SPI2_MISO/I2S2_SDI/FMC_D26/DCMI_D9/LCD_G7/EVENTOUT (io), C7 PK6/LCD_B7/EVENTOUT (io), C8 PK3/LCD_B4/EVENTOUT (io), C14 PI3/TIM8_ETR/SPI2_MOSI/I2S2_SDO/FMC_D27/DCMI_D10/EVENTOUT (io), D7 PK7/LCD_DE/EVENTOUT (io), D10 PJ14/LCD_B2/EVENTOUT (io), D11 PJ12/TRGOUT/LCD_G3/LCD_B0/EVENTOUT (io), E2 PI9/UART4_RX/FDCAN1_RX/FMC_D30/LCD_VSYNC/EVENTOUT (io), E4 PI8/EVENTOUT (io), E10 PJ13/LCD_B4/LCD_B1/EVENTOUT (io), F3 PI10/FDCAN1_RXFD_MODE/ETH_MII_RX_ER/FMC_D31/LCD_HSYNC/EVENTOUT (io), F4 PI11/LCD_G6/OTG_HS_ULPI_DIR/EVENTOUT (io), H1 PI12/LCD_HSYNC/EVENTOUT (io), H2 PI13/LCD_VSYNC/EVENTOUT (io), H3 PI14/LCD_CLK/EVENTOUT (io), H17 PK2/TIM1_BKIN/TIM8_BKIN/TIM8_BKIN_COMP12/TIM1_BKIN_COMP12/LCD_G7/EVENTOUT (io), J14 PK0/TIM1_CH1N/TIM8_CH3/SPI5_SCK/LCD_G5/EVENTOUT (io), J15 PK1/TIM1_CH1/TIM8_CH3N/SPI5_NSS/LCD_G6/EVENTOUT (io), K14 PJ11/TIM1_CH2/TIM8_CH2N/SPI5_MISO/LCD_G4/EVENTOUT (io), L14 PJ10/TIM1_CH2N/TIM8_CH2/SPI5_MOSI/LCD_G3/EVENTOUT (io), M14 PJ9/TIM1_CH3/TIM8_CH1N/UART8_RX/LCD_G2/EVENTOUT (io), N6 PJ0/LCD_R7/LCD_R1/EVENTOUT (io), N13 PJ8/TIM1_CH3N/TIM8_CH1/UART8_TX/LCD_G1/EVENTOUT (io), N14 PJ7/TRGIN/TIM8_CH2N/LCD_G0/EVENTOUT (io), N15 PJ6/TIM8_CH2/LCD_R7/EVENTOUT (io), P5 PI15/LCD_G2/LCD_R0/EVENTOUT (io), P6 PJ1/LCD_R2/EVENTOUT (io), R12 PJ5/LCD_R6/EVENTOUT (io), T6 PJ2/LCD_R3/EVENTOUT (io), U6 PJ3/LCD_R4/EVENTOUT (io), U7 PJ4/LCD_R5/EVENTOUT (io)
part F pins: A1 VSS_1 (power), A6 VDDLDO (power), A7 VCAP (power), A17 VSS_1 (power), B1 VBAT (power), B2 VSS_1 (power), B6 VSS_1 (power), C10 VSS_1 (power), C13 VSS_1 (power), C16 VSS_1 (power), C17 VDDLDO (power), D17 VCAP (power), E1 NC, E6 VDD_1 (power), E9 VDD_1 (power), E11 VDD_1 (power), F1 NC1, F2 VSS_1 (power), F5 VDD_1 (power), F17 VDD33USB (power), G2 NC2, G5 VDD_1 (power), G7 VSS_2 (power), G8 VSS_2 (power), G9 VSS_2 (power), G10 VSS_2 (power), G11 VSS_2 (power), G13 VDD_1 (power), G16 VSS_2 (power), G17 VDD50USB (power), H5 VDD_1 (power), H7 VSS_2 (power), H8 VSS_2 (power), H9 VSS_2 (power), H10 VSS_2 (power), H11 VSS_3 (power), H13 VDD_1 (power), J3 VSS_1 (power), J7 VSS_3 (power), J8 VSS_3 (power), J9 VSS_3 (power), J10 VSS_3 (power), J11 VSS_3 (power), J13 VDD_1 (power), J16 VSS_1 (power), J17 VSS_1 (power), K5 VDD_2 (power), K7 VSS_3 (power), K8 VSS_3 (power), K9 VSS_3 (power), K10 VSS_3 (power), K11 VSS_3 (power), K13 VDD_1 (power), K15 VSS_2 (power), K16 NC, K17 NC, L1 VDDA (power), L5 VDD_2 (power), L7 VSS_3 (power), L8 VSS_3 (power), L9 VSS_3 (power), L10 VSS_3 (power), L11 VSS_3 (power), L13 VDD_1 (power), L15 VSS_2 (power), L16 NC, L17 NC, M1 VREF+ (in), M5 VDD_2 (power), M13 VDD_2 (power), M15 VSS_2 (power), M16 NC, M17 NC, N1 VREF- (in), N7 VDD_2 (power), N8 VDD_2 (power), N10 VDD_2 (power), N11 VDD_2 (power), N12 VDD_2 (power), N16 VSS_1 (power), N17 NC, P1 VSSA (power), P17 VDD_2 (power), R4 VSS_1 (power), R8 VSS_2 (power), T12 VSS_1 (power), U1 VSS_2 (power), U11 VCAP (power), U12 VDDLDO (power), U17 VSS_1 (power)

## SW 3x6
designator SW?, comment 3x6x5  (value not drawn)
3x6轻触开关
footprint SW SMD-3*6*2.5 (3*6*2.5mm)
pins: 1, 2

## TEST
designator TP?
测试点
footprint TEST 1.6 (测试点1.6mm)
pins: 1

## TMI7003B
designator U?
footprint QFN-20_L3.0-W3.0-P0.40-BL-EP1.7
pins: 1 NC, 2 FB3, 3 FB2, 4 NC, 5 NC, 6 SW2, 7 VIN2, 8 EN2, 9 EN1, 10 VIN1, 11 SW1, 12 NC, 13 NC, 14 FB1, 15 NC, 16 NC, 17 NC, 18 EN3, 19 VIN3, 20 SW3, 21 GND

## W25Q
designator IC?, comment W25Qxx
SPI Flash
footprint SOP8W_N (5.3*8.3*1.8mm（长宽高）)
pins: 1 ~{CS}, 2 DO, 3 ~{WP}, 4 GND, 5 DI, 6 CLK, 7 ~{HOLD}, 8 VCC

## XTAL-2P
designator X?, comment 32.768KHZ
2脚无源晶振(谐振器）
footprint XTAL-3215-2P (3.2*1.5*0.6mm(长宽高))
pins: 1, 2

## XTAL-4P
designator X?, comment 26M
4脚无源晶振(谐振器）
footprint XTAL-3225-4P (3.2*2.5*0.7mm(长宽高))
pins: 1, 2, 3, 4

## XTAL-ACT-4P
designator X?, comment 24M
4脚有源晶振(振荡器)
footprint OSC-3225-4P (3.2*2.5*0.7mm(长宽高))
pins: 1 EN/NC, 2 GND, 3 OUT, 4 VCC

## ZX-TYPEC-WTM1628
designator U?
footprint USB-C-SMD_ZX-TYPEC-WTM1628
pins: 13, 14, 15, 16, A1B12 GND, A4B9 VBUS, A5 CC1, A6 DP1, A7 DN1, A8 SBU1, B1A12 GND, B4A9 VBUS, B5 CC2, B6 DP2, B7 DN2, B8 SBU2